# Altium schematic symbol library Stepper_DriverSCH.SCHLIB: 98 symbols
Pins are listed as number, name and electrical type; pins without a type are passive.

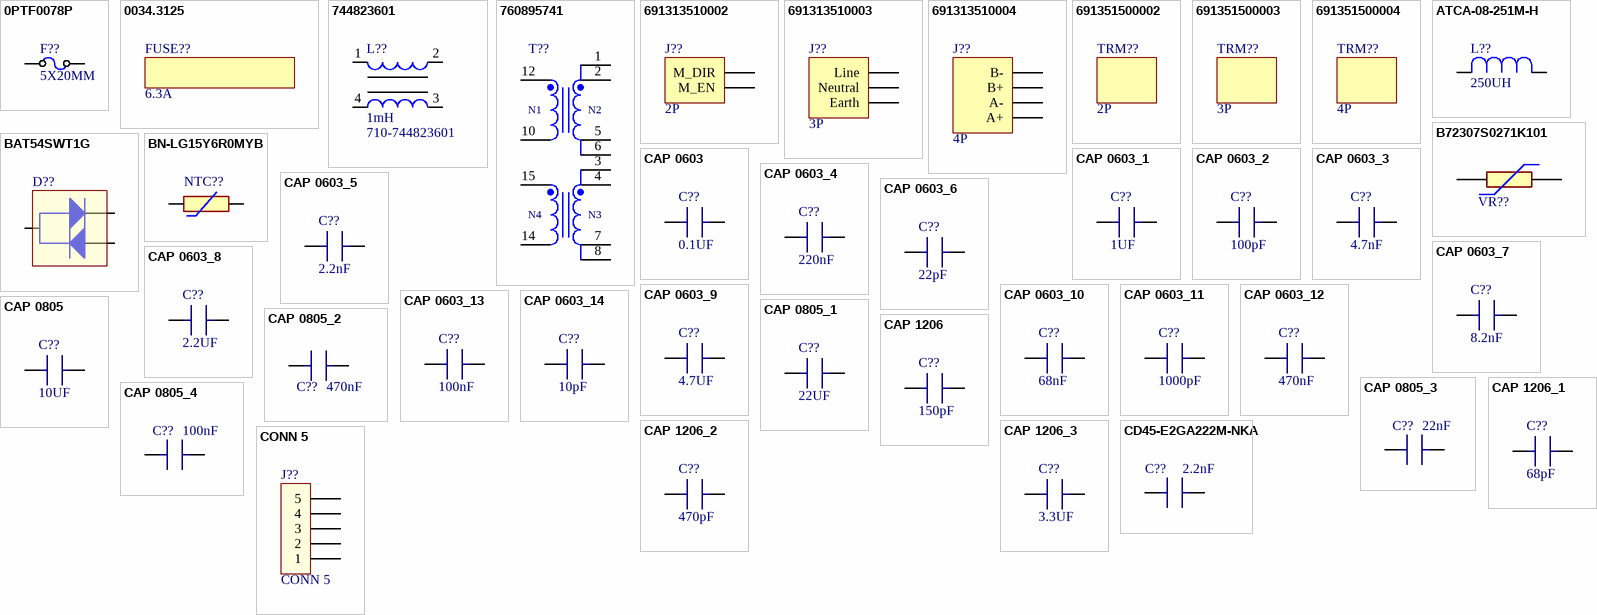
[diagram p0: symbols 0PTF0078P to CONN 5]

## 0PTF0078P
designator F??, comment 5X20MM
Fuse Holder 5X20MM Pitch 22/7 UL94V0 Open; Supplier 1: Mouser; Supplier Part Number 1: 576-0PTF0078P
footprint FUSE HOLDER 5X20MM
pins: 1, 2

## 0034.3125
designator FUSE??, comment 6.3A  (mechanical)
Cartridge Fuses FST 5X20 250V 6.3A; Supplier 1: Mouser; Supplier Part Number 1: 693-0034.3125

## 744823601
designator L??, comment 1mH  Supplier Part Number 1: 710-744823601
Common Mode Chokes / Filters WE-CMB Choke Type M 1mH 6A 13mOhm; Supplier 1: Mouser
footprint 744823601
pins: 1, 2, 3, 4

## 760895741
designator T??, comment 360-400Vin, 24Vout, 250W  (value not drawn)
WE-LLCR Resonant Converter, THT, ETD44, 360-400Vin, 24Vout, 250W; Manufacturer Part Number: 760895741; Manufacturer: Wurth Elektronik; Auxiliary Voltage: 16V; Inductance: 400uH; Leakage Inductance: 65uH; Output Current: 10.4A; Output Voltage: 24V; Saturation Current: 4.3A; Switching Frequency: 70-120kHz; Turns Ratio: 27:3:3:2; Category: Transformers For AC-DC Converter; Match Code: WE-LLCR; ComponentLink1Description: Website Link; ComponentLink1URL: https://www.we-online.com/redexpert/article/760895741?ad; ComponentLink2Description: Datasheet Link; ComponentLink2URL: https://www.we-online.com/redexpert/spec/760895741?ad; Mount: Through Hole; Operating Temperature Max: 125°C; Operating Temperature Min: -40°C; Packaging: Tray; Case/Size Code: ETD44; Length: 48mm; Width: 46mm; Height: 27.5mm; Input Voltage: 360-400V; Output Power: 250W
footprint WE-LLCR_ETD44 (Resonant Converter, body 48x46mm)
simulation model 760895741
pins: 1, 2, 3, 4, 5, 6, 7, 8, 10, 12, 14, 15
text: N1; N2; N4; N3

## 691313510002
designator J??, comment 2P
Pluggable Terminal Blocks WR-TBL 300VAC 20A 2P Right Angle; Supplier 1: Mouser; Supplier Part Number 1: 710-691313510002
footprint 691313510002 (5,08mm - PCB Headers - Horizontal - Closed ends - 02p)
pins: 1 M_EN, 2 M_DIR

## 691313510003
designator J??, comment 3P
Pluggable Terminal Blocks WR-TBL 300VAC 20A 3P Right Angle; Supplier 1: Mouser; Supplier Part Number 1: 710-691313510003
footprint 691313510003 (5,08mm - PCB Headers - Horizontal - Closed ends - 03p)
pins: 1 Earth, 2 Neutral, 3 Line (power)

## 691313510004
designator J??, comment 4P
Pluggable Terminal Blocks WR-TBL 300VAC 20A 4P Right Angle; Supplier 1: Mouser; Supplier Part Number 1: 710-691313510004
footprint 691313510004 (5,08mm - PCB Headers - Horizontal - Closed ends - 04p)
pins: 1 A+, 2 A-, 3 B+ (power), 4 B- (power)

## 691351500002
designator TRM??, comment 2P  (mechanical)
Pluggable Terminal Blocks WR-TBL 300VAC 20A 2P Right Angle; Supplier 1: Mouser; Supplier Part Number 1: 710-691351500002

## 691351500003
designator TRM??, comment 3P  (mechanical)
Pluggable Terminal Blocks WR-TBL 300VAC 20A 3P Right Angle; Supplier 1: Mouser; Supplier Part Number 1: 710-691351500003

## 691351500004
designator TRM??, comment 4P  (mechanical)
Pluggable Terminal Blocks WR-TBL 300VAC 20A 4P Right Angle; Supplier 1: Mouser; Supplier Part Number 1: 710-691351500004

## ATCA-08-251M-H
designator L??, comment 250UH
FIXED IND 250UH 10A 27 MOHM TH; Supplier 1: Mouser; Supplier Part Number 1: 815-ATCA-08-251M-H
footprint IND: ATCA-08-251M-H
pins: 1, 2

## B72307S0271K101
designator VR??, comment 275VAC  (value not drawn)
Varistors 7mm, 275Vac, 10%, Compact Series; Supplier 1: Mouser; Supplier Part Number 1: 871-B72307S0271K101
footprint B72307S0271K101
pins: 1, 2

## BAT54SWT1G
designator D??  (value not drawn)
Schottky Diodes & Rectifiers 30V 200mW Dual; Supplier 1: Mouser; Supplier Part Number 1: 863-BAT54SWT1G
footprint SOT323
pins: 1 A, 2 K, 3 A/K

## BN-LG15Y6R0MYB
designator NTC??  (value not drawn)
NTC (Negative Temperature Coefficient) Thermistors 15 dia Power NTC 6ohm Y kink bulk; Supplier 1: Mouser; Supplier Part Number 1: 652-BN-LG15Y6R0MYB
footprint NTC Radial: 7.5X1MM
pins: 1, 2

## CAP 0603
designator C??, comment 0.1UF
CAP SMD 0603
footprint CAP: 0603
pins: 1 A, 2 B

## CAP 0603_1
designator C??, comment 1UF
CAP SMD 0603
footprint CAP: 0603
pins: 1 A, 2 B

## CAP 0603_2
designator C??, comment 100pF
CAP SMD 0603
footprint CAP: 0603
pins: 1 A, 2 B

## CAP 0603_3
designator C??, comment 4.7nF
CAP SMD 0603
footprint CAP: 0603
pins: 1 A, 2 B

## CAP 0603_4
designator C??, comment 220nF
CAP SMD 0603
footprint CAP: 0603
pins: 1 A, 2 B

## CAP 0603_5
designator C??, comment 2.2nF
CAP SMD 0603
footprint CAP: 0603
pins: 1 A, 2 B

## CAP 0603_6
designator C??, comment 22pF
CAP SMD 0603
footprint CAP: 0603
pins: 1 A, 2 B

## CAP 0603_7
designator C??, comment 8.2nF
CAP SMD 0603
footprint CAP: 0603
pins: 1 A, 2 B

## CAP 0603_8
designator C??, comment 2.2UF
CAP SMD 0603
footprint CAP: 0603
pins: 1 A, 2 B

## CAP 0603_9
designator C??, comment 4.7UF
CAP SMD 0603
footprint CAP: 0603
pins: 1 A, 2 B

## CAP 0603_10
designator C??, comment 68nF
CAP SMD 0603
footprint CAP: 0603
pins: 1 A, 2 B

## CAP 0603_11
designator C??, comment 1000pF
CAP SMD 0603
footprint CAP: 0603
pins: 1 A, 2 B

## CAP 0603_12
designator C??, comment 470nF
CAP SMD 0603
footprint CAP: 0603
pins: 1 A, 2 B

## CAP 0603_13
designator C??, comment 100nF
CAP SMD 0603
footprint CAP: 0603
pins: 1 A, 2 B

## CAP 0603_14
designator C??, comment 10pF
CAP SMD 0603
footprint CAP: 0603
pins: 1 A, 2 B

## CAP 0805
designator C??, comment 10UF
CAP SMD 0805
footprint CAP: 0805
pins: 1 A, 2 B

## CAP 0805_1
designator C??, comment 22UF
CAP SMD 0805
footprint CAP: 0805
pins: 1 A, 2 B

## CAP 0805_2
designator C??, comment 470nF
CAP SMD 0805
footprint CAP: 0805
pins: 1 A, 2 B

## CAP 0805_3
designator C??, comment 22nF
CAP SMD 0805
footprint CAP: 0805
pins: 1 A, 2 B

## CAP 0805_4
designator C??, comment 100nF
CAP SMD 0805
footprint CAP: 0805
pins: 1 A, 2 B

## CAP 1206
designator C??, comment 150pF
CAP SMD 1206
footprint CAP: 1206
pins: 1 A, 2 B

## CAP 1206_1
designator C??, comment 68pF
CAP SMD 1206
footprint CAP: 1206
pins: 1 A, 2 B

## CAP 1206_2
designator C??, comment 470pF
CAP SMD 1206
footprint CAP: 1206
pins: 1 A, 2 B

## CAP 1206_3
designator C??, comment 3.3UF
CAP SMD 1206
footprint CAP: 1206
pins: 1 A, 2 B

## CD45-E2GA222M-NKA
designator C??, comment 2.2nF
Safety Capacitors D: 9mm X1/Y1 2200pF E 20% LS:10mm; Supplier 1: Mouser; Supplier Part Number 1: 810-CD45-E2GA222MNKA
footprint C10MM
pins: 1 A, 2 B

## CONN 5
designator J??
footprint CON: PLS-5
pins: 1, 2, 3 (power), 4 (power), 5 (power)

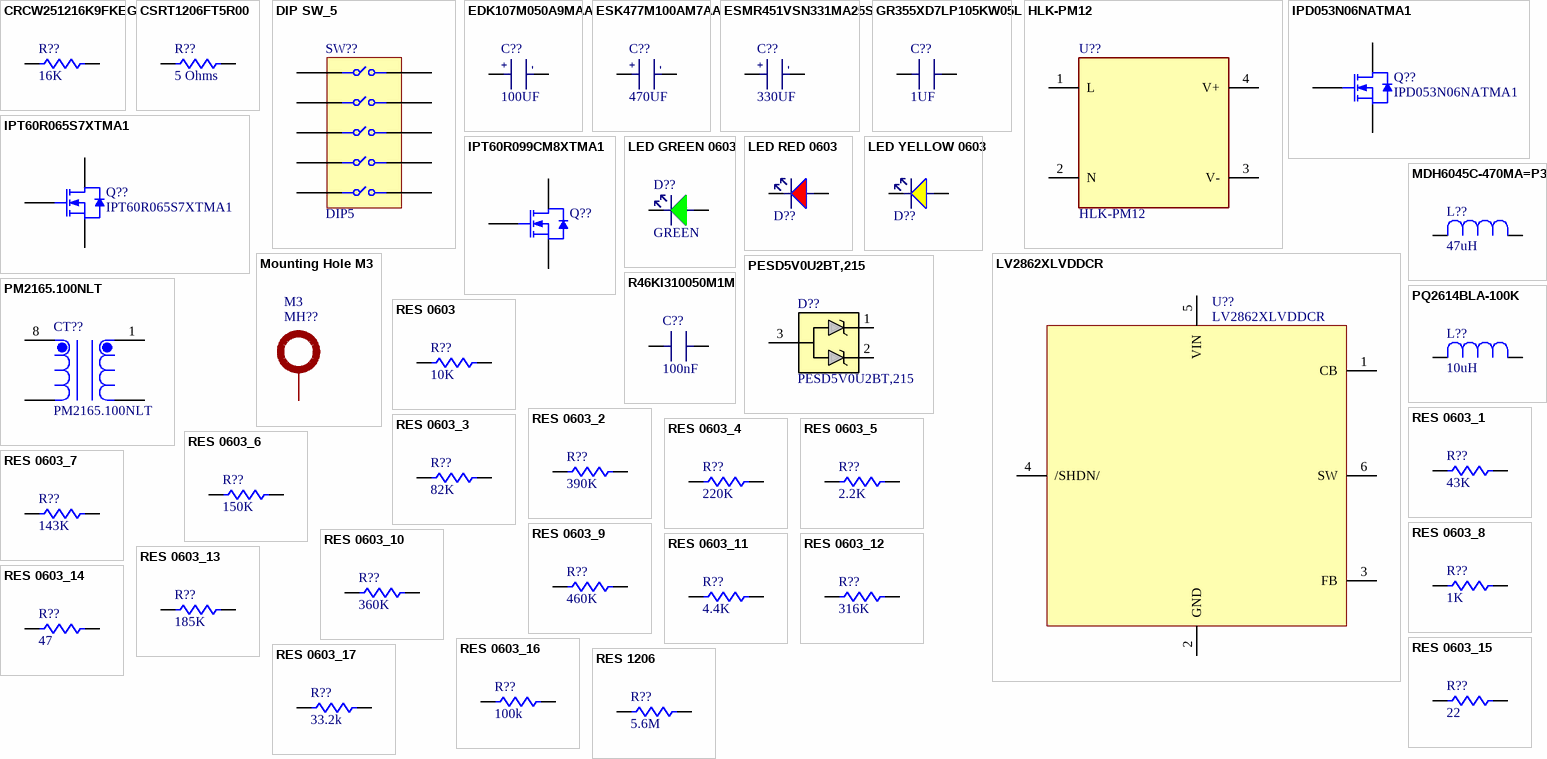
[diagram p1: symbols CRCW251216K9FKEG to RES 1206]

## CRCW251216K9FKEG
designator R??, comment 16K
Thick Film Resistors CRCW2512 100 16K9 1% E67 e3; Supplier 1: Mouser; Supplier Part Number 1: 71-CRCW251216K9FKEG
footprint RES: 2512
pins: 1, 2

## CSRT1206FT5R00
designator R??, comment 5 Ohms
Current Sense Resistors - SMD 5Ohms 1206 1W 1% Thin Curr Sens AEC-Q200; Supplier 1: Mouser; Supplier Part Number 1: 708-CSRT1206FT5R00
footprint RES: 1206
pins: 1, 2

## DIP SW_5
designator SW??, comment DIP5
DIP Switch 5
footprint DIPSW254_5
pins: 1 COM1, 2 COM2, 3 COM3, 4 COM4, 5 COM5, 6 NO 5, 7 NO 4, 8 NO 3, 9 NO 2, 10 NO 1

## EDK107M050A9MAA
designator C??, comment 100UF
Aluminium Electrolytic Capacitors - SMD 50V 100uF 20%; Supplier 1: Mouser; Supplier Part Number 1: 80-EDK107M050A9MAA
footprint CAP SMD 8 (Electrolytic Cap, Size E, Size F, 8.3X10)
pins: 1 + "positive", 2 - "negative"

## ESK477M100AM7AA
designator C??, comment 470UF
Aluminium Electrolytic Capacitors - Radial Leaded 100V 470uF 85C 2k Hour Radial; Supplier 1: Mouser; Supplier Part Number 1: 80-ESK477M100AM7AA
footprint CAP: D16C7.5H25
pins: 1 + "positive", 2 - "negative"

## ESMR451VSN331MA25S
designator C??, comment 330UF
Aluminium Electrolytic Capacitors - Snap In 450V 330uF 20% Tol.; Supplier 1: Mouser; Supplier Part Number 1: 661-ESMR451N331MA25S
footprint CAP: 10MM D: 35MM L: 25MM Snap In
pins: 1 + "positive", 2 - "negative"

## GR355XD7LP105KW05L
designator C??, comment 1UF
Multilayer Ceramic Capacitors MLCC - SMD/SMT 1 uF 450 VDC 10% 2220 X7T; Supplier 1: Mouser; Supplier Part Number 1: 81-GR355X7LP105KW05L
footprint CAP: 2220
pins: 1 A, 2 B

## HLK-PM12
designator U??
AC-DC Module 3W 220Vac to 12Vdc; Supplier 1: LCSC; Supplier Part Number 1: C209905
footprint HLK-PM01
pins: 1 L, 2 N, 3 V-, 4 V+

## IPD053N06NATMA1
designator Q??
MOSFETs N-Ch 60V 45A DPAK-2; Supplier 1: Mouser; Supplier Part Number 1: 726-IPD053N06NATMA1
footprint DPAK_3 (D-PAK (TO-252), 3-Pads, Body 6.2x6.7mm)
pins: 1 G, 3 S, 4 D

## IPT60R065S7XTMA1
designator Q??
MOSFET N-CH 600V 8A 8HSOF; Supplier 1: Mouser; Supplier Part Number 1: 726-IPT60R065S7XTMA1
footprint 8-HSOF
pins: 1 G, 2 D, 3 S

## IPT60R099CM8XTMA1
designator Q??  (value not drawn)
MOSFETs 600V CoolMOS CM8 Power Transistor; Supplier 1: Mouser; Supplier Part Number 1: 726-IPT60R099CM8XTMA
footprint 8-HSOF
pins: 1 G, 2 D, 3 S

## LED GREEN 0603
designator D??, comment GREEN
LED GREEN CLEAR 0603 SMD
footprint LED: 0603G
pins: 1 C "Cathod", 2 A "Anod"

## LED RED 0603
designator D??, comment RED  (value not drawn)
LED RED CLEAR 0603 SMD
footprint LED: 0603R
pins: 1 C "Cathod", 2 A "Anod"

## LED YELLOW 0603
designator D??, comment YELLOW  (value not drawn)
LED YELLOW CLEAR 0603 SMD
footprint LED: 0603Y
pins: 1 C "Cathod", 2 A "Anod"

## LV2862XLVDDCR
designator U??
Switching Voltage Regulators 4.5-V to 60-V 600-m A buck converter in A 595-LV2862XLVDDCT; Supplier 1: Mouser; Supplier Part Number 1: 595-LV2862XLVDDCR
footprint SOT23-6 (pitch 0.95 mm)
pins: 1 CB, 2 GND (power), 3 FB, 4 /SHDN/ (power), 5 VIN, 6 SW

## MDH6045C-470MA=P3
designator L??, comment 47uH
Power Inductors - SMD 47uH 208mOhms 20 % 1A AEC-Q200; Supplier 1: Mouser; Supplier Part Number 1: 81-MDH6045C-470MA=P3
footprint MDH6045C
pins: 1, 2

## Mounting Hole M3
designator MH??, comment M3  (no BOM)
Mounting Hole M3 Screw
footprint M3 Mounting Hole
pins: 1

## PESD5V0U2BT,215
designator D??
ESD Protection Diodes / TVS Diodes ESD 5V BI; Supplier 1: Mouser; Supplier Part Number 1: 771-PESD5V0U2BTT/R
footprint SOT23_3
pins: 1 K1, 2 K2, 3 CC

## PM2165.100NLT
designator CT??
Current Transformers 2mH 1000V AEC-Q200 20A DCR=0.75mOhms; Supplier 1: Mouser; Supplier Part Number 1: 673-PM2165.100NLT
footprint CT: PM2165.100NLT
pins: 1 P, 3 P, 7 S, 8 S

## PQ2614BLA-100K
designator L??, comment 10uH
Power Inductors - SMD 10uH 10% 30A AEC-Q200 GULL WING; Supplier 1: Mouser; Supplier Part Number 1: 652-PQ2614BLA-100K
footprint IND: PQ2614BLA100K
pins: 1, 2

## R46KI310050M1M
designator C??, comment 100nF
Safety Capacitors 275vac 0.1uF 20%; Supplier 1: Mouser; Supplier Part Number 1: 80-R46KI310050M1M
footprint CAP: 15MM Film Capacitor
pins: 1 A, 2 B

## RES 0603
designator R??, comment 10K
RES SMD 0603
footprint RES: 0603
pins: 1, 2

## RES 0603_1
designator R??, comment 43K
RES SMD 0603
footprint RES: 0603
pins: 1, 2

## RES 0603_2
designator R??, comment 390K
RES SMD 0603
footprint RES: 0603
pins: 1, 2

## RES 0603_3
designator R??, comment 82K
RES SMD 0603
footprint RES: 0603
pins: 1, 2

## RES 0603_4
designator R??, comment 220K
RES SMD 0603
footprint RES: 0603
pins: 1, 2

## RES 0603_5
designator R??, comment 2.2K
RES SMD 0603
footprint RES: 0603
pins: 1, 2

## RES 0603_6
designator R??, comment 150K
RES SMD 0603
footprint RES: 0603
pins: 1, 2

## RES 0603_7
designator R??, comment 143K
RES SMD 0603
footprint RES: 0603
pins: 1, 2

## RES 0603_8
designator R??, comment 1K
RES SMD 0603
footprint RES: 0603
pins: 1, 2

## RES 0603_9
designator R??, comment 460K
RES SMD 0603
footprint RES: 0603
pins: 1, 2

## RES 0603_10
designator R??, comment 360K
RES SMD 0603
footprint RES: 0603
pins: 1, 2

## RES 0603_11
designator R??, comment 4.4K
RES SMD 0603
footprint RES: 0603
pins: 1, 2

## RES 0603_12
designator R??, comment 316K
RES SMD 0603
footprint RES: 0603
pins: 1, 2

## RES 0603_13
designator R??, comment 185K
RES SMD 0603
footprint RES: 0603
pins: 1, 2

## RES 0603_14
designator R??, comment 47
RES SMD 0603
footprint RES: 0603
pins: 1, 2

## RES 0603_15
designator R??, comment 22
RES SMD 0603
footprint RES: 0603
pins: 1, 2

## RES 0603_16
designator R??, comment 100k
RES SMD 0603
footprint RES: 0603
pins: 1, 2

## RES 0603_17
designator R??, comment 33.2k
RES SMD 0603
footprint RES: 0603
pins: 1, 2

## RES 1206
designator R??, comment 5.6M
RES SMD 1206
footprint RES: 1206
pins: 1, 2

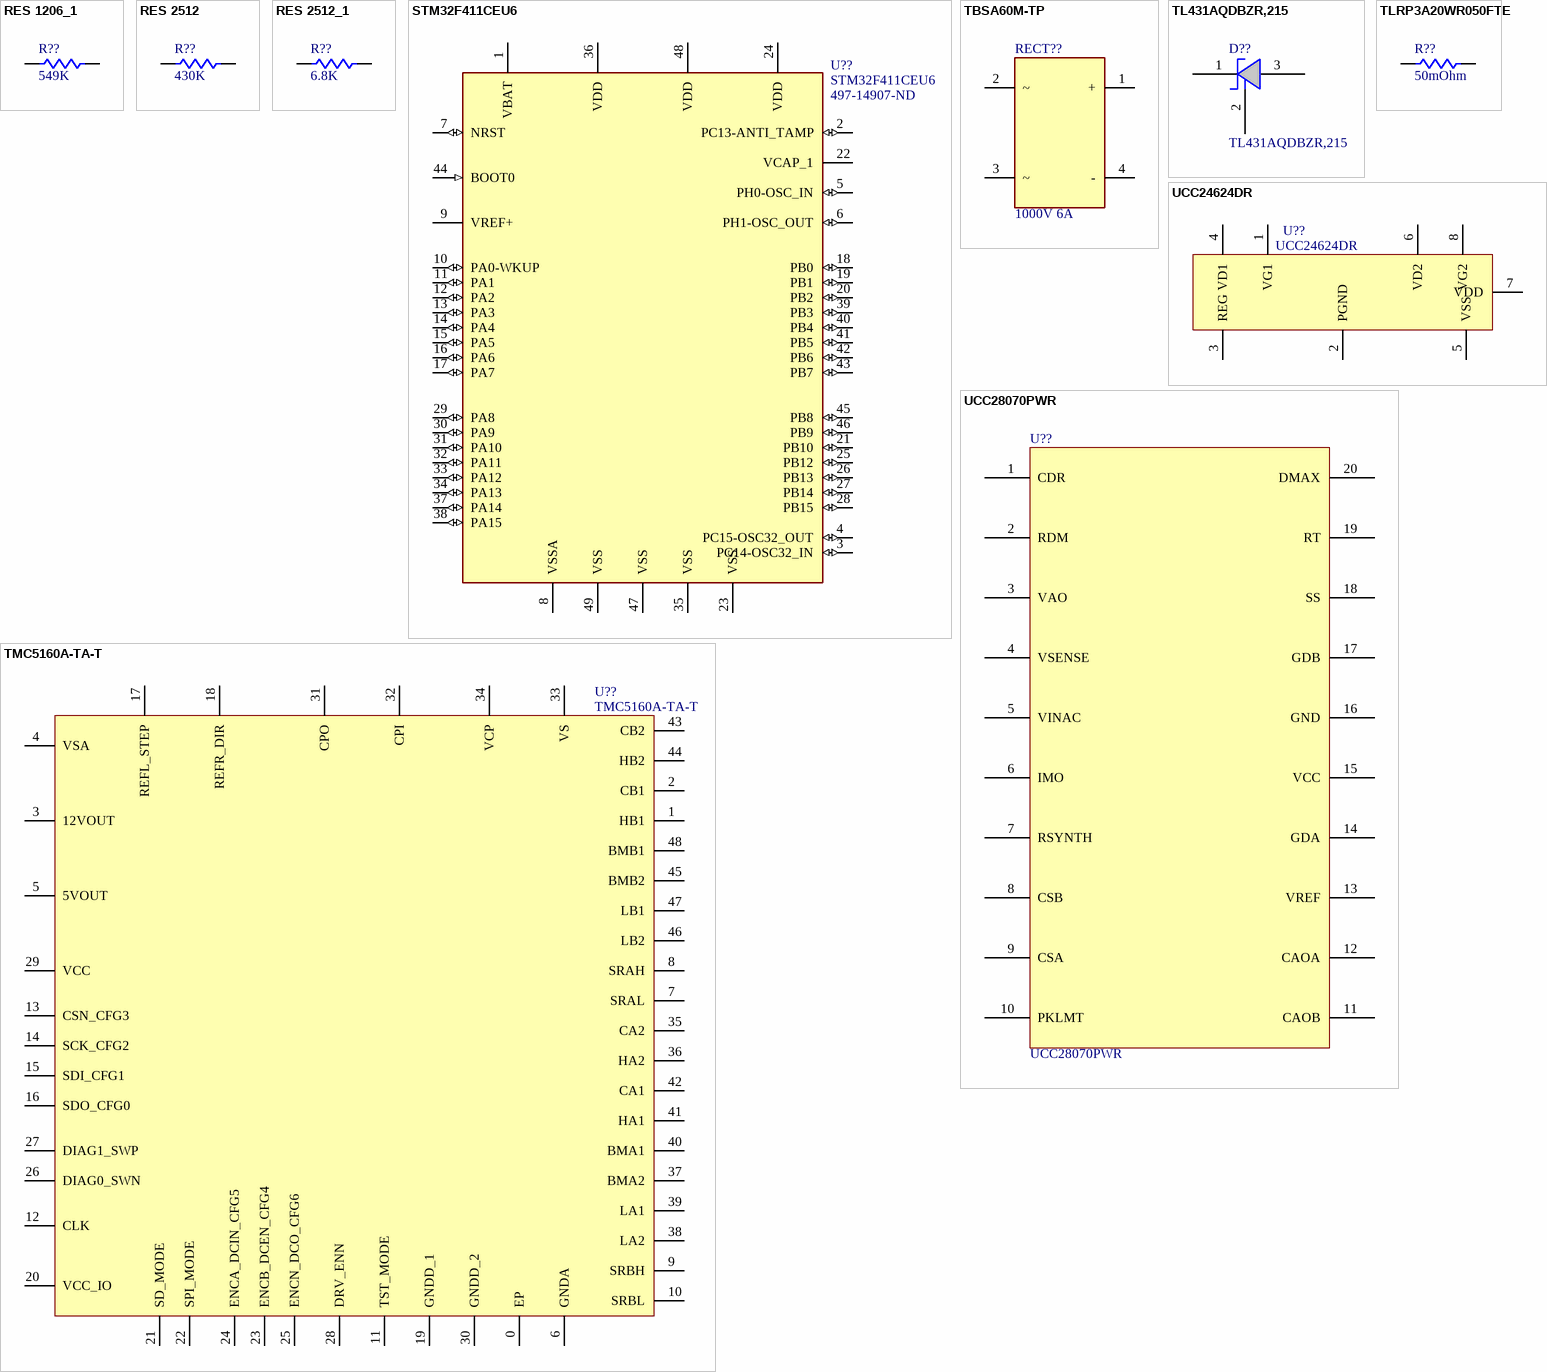
[diagram p2: symbols RES 1206_1 to UCC28070PWR]

## RES 1206_1
designator R??, comment 549K
RES SMD 1206
footprint RES: 1206
pins: 1, 2

## RES 2512
designator R??, comment 430K
RES SMD 2512
footprint RES: 2512
pins: 1, 2

## RES 2512_1
designator R??, comment 6.8K
RES SMD 2512
footprint RES: 2512
pins: 1, 2

## STM32F411CEU6
designator U??  Supplier Part Number 1: 497-14907-ND
IC MCU 32BIT 512KB FLSH 48UFQFPN; Manufacturer: STMicroelectronics; Interface: I2C,SPI,USB,IrDA,MMC,SDIO,SD,UART,USART,LIN,I2S; Number of I/Os: 36; Frequency: 100MHz; Oscillator Type: Internal; Memory Type: FLASH; Peripherals: Brown-out Detect/Reset,POR,PWM,WDT,DMA; Core Architecture: ARM; RAM Size: 128KB; Max Power Dissipation: 625mW; Number of Timers/Counters: 8; Min Supply Voltage: 1.7V; Max Supply Voltage: 3.6V; Data Bus Width: 32b; Watchdog Timer: Yes; Number of ADC Channels: 16; Operating Supply Voltage: 3.3V; Supplier 1: Digi-Key; Manufacturer Part Number: STM32F411CEU6; Mount: Surface Mount; Case/Package: UFQFPN; Number of Pins: 48; Min Operating Temperature: -40°C; Max Operating Temperature: 85°C; Packaging: Tray; Memory Size: 512KB; Number of Programmable I/O: 36; Max Frequency: 100MHz; Package Quantity: 1560; Length: 7mm; Width: 7mm; Radiation Hardening: No; Lead Free: Lead Free; RoHS Compliant: Yes; REACH SVHC: No SVHC
footprint STM32F411CEU6 (QFN, 48-Leads, Body 7.00x7.00mm, Pitch 0.50mm, Thermal Pad 5.80x5.80mm, IPC Medium Density)
pins: 1 VBAT (power), 2 PC13-ANTI_TAMP (io), 3 PC14-OSC32_IN (io), 4 PC15-OSC32_OUT (io), 5 PH0-OSC_IN (io), 6 PH1-OSC_OUT (io), 7 NRST (io), 8 VSSA (power), 9 VREF+ (power), 10 PA0-WKUP (io), 11 PA1 (io), 12 PA2 (io), 13 PA3 (io), 14 PA4 (io), 15 PA5 (io), 16 PA6 (io), 17 PA7 (io), 18 PB0 (io), 19 PB1 (io), 20 PB2 (io), 21 PB10 (io), 22 VCAP_1 (power), 23 VSS (power), 24 VDD (power), 25 PB12 (io), 26 PB13 (io), 27 PB14 (io), 28 PB15 (io), 29 PA8 (io), 30 PA9 (io), 31 PA10 (io), 32 PA11 (io), 33 PA12 (io), 34 PA13 (io), 35 VSS (power), 36 VDD (power), 37 PA14 (io), 38 PA15 (io), 39 PB3 (io), 40 PB4 (io), 41 PB5 (io), 42 PB6 (io), 43 PB7 (io), 44 BOOT0 (in), 45 PB8 (io), 46 PB9 (io), 47 VSS (power), 48 VDD (power), 49 VSS (power)

## TBSA60M-TP
designator RECT??, comment 1000V 6A
Bridge Rectifiers BRIDGE RECTIFIERS 1000V 6A, TBSG; Supplier 1: Mouser; Supplier Part Number 1: 833-TBSA60M-TP
footprint TBSG-4
pins: 1 +, 2 ~, 3 ~, 4 -

## TL431AQDBZR,215
designator D??
Shunt Voltage Reference IC Adjustable 2.495V 36 VV ±1% 100 mA TO-236AB; Supplier 1: Mouser; Supplier Part Number 1: 771-TL431AQDBZR215
footprint SOT23(TO-236AB)_NEX
pins: 1, 2, 3

## TLRP3A20WR050FTE
designator R??, comment 50mOhm
Current Sense Resistors - SMD TLRP 2512 2.0W R050 1% 75PPM 4K RL; Supplier 1: Mouser; Supplier Part Number 1: 279-TLRP3A20WR050FTE
footprint RES: 2512
pins: 1, 2

## TMC5160A-TA-T
designator U??
Motor/Motion/Ignition Controllers & Drivers Stepper motor cDriver 8 to 60V, for external N-Fets with S/D and SPI Interface, 256 Steps, SixPoint ramp controller, CoolStep, StallGuard2, SpreadCycle and StealthChop2; Supplier 1: Mouser; Supplier Part Number 1: 700-TMC5160A-TA-T
footprint 48-TQFP (pitch 0.5 mm, power pad)
pins: 0 EP, 1 HB1, 2 CB1, 3 12VOUT, 4 VSA, 5 5VOUT, 6 GNDA, 7 SRAL, 8 SRAH, 9 SRBH, 10 SRBL, 11 TST_MODE, 12 CLK, 13 CSN_CFG3, 14 SCK_CFG2, 15 SDI_CFG1, 16 SDO_CFG0, 17 REFL_STEP, 18 REFR_DIR, 19 GNDD_1, 20 VCC_IO, 21 SD_MODE, 22 SPI_MODE, 23 ENCB_DCEN_CFG4, 24 ENCA_DCIN_CFG5, 25 ENCN_DCO_CFG6, 26 DIAG0_SWN, 27 DIAG1_SWP, 28 DRV_ENN, 29 VCC, 30 GNDD_2, 31 CPO, 32 CPI, 33 VS, 34 VCP, 35 CA2, 36 HA2, 37 BMA2, 38 LA2, 39 LA1, 40 BMA1, 41 HA1, 42 CA1, 43 CB2, 44 HB2, 45 BMB2, 46 LB2, 47 LB1, 48 BMB1

## UCC24624DR
designator U??
Gate Drivers High-frequency dual synchronous rectifi A 595-UCC24624DT; Supplier 1: Mouser; Supplier Part Number 1: 595-UCC24624DR
footprint 8-SOIC
pins: 1 VG1, 2 PGND, 3 REG, 4 VD1, 5 VSS, 6 VD2, 7 VDD, 8 VG2

## UCC28070PWR
designator U??
Power Factor Correction - PFC 2Phase Interleaved C CM PFC Controller A 595-UCC28070PW; Supplier 1: Mouser; Supplier Part Number 1: 595-UCC28070PWR
footprint 20-TSSOP (pitch 0.65 mm)
pins: 1 CDR, 2 RDM, 3 VAO, 4 VSENSE, 5 VINAC, 6 IMO, 7 RSYNTH, 8 CSB, 9 CSA, 10 PKLMT, 11 CAOB, 12 CAOA, 13 VREF, 14 GDA, 15 VCC, 16 GND, 17 GDB, 18 SS, 19 RT, 20 DMAX

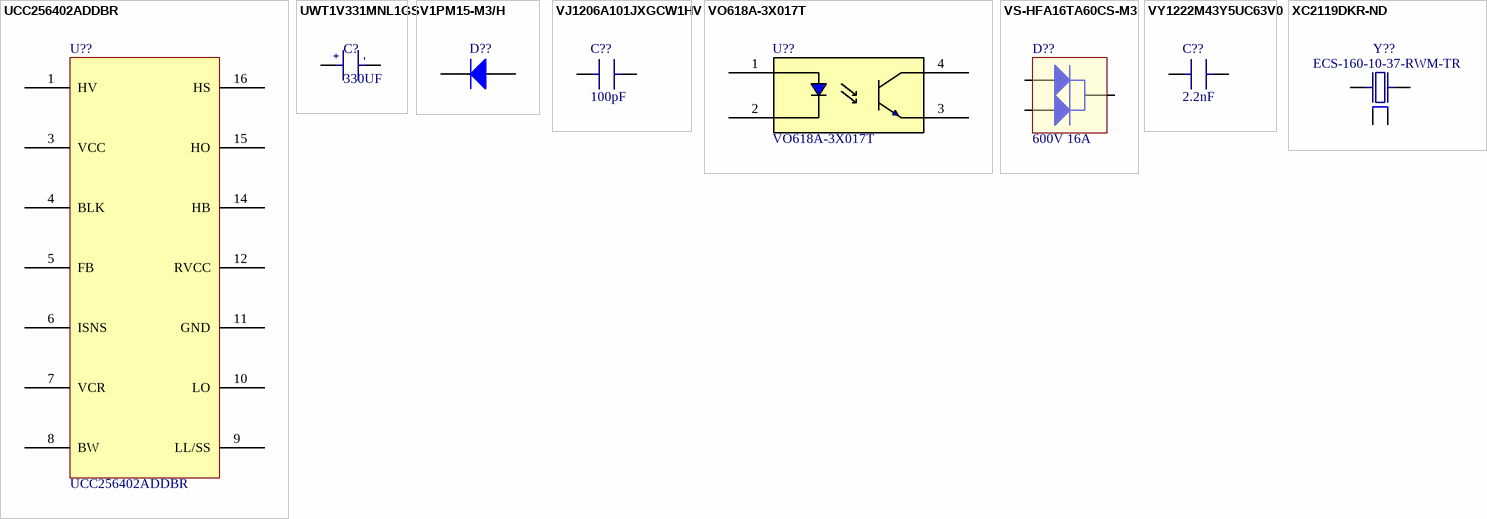
[diagram p3: symbols UCC256402ADDBR to XC2119DKR-ND]

## UCC256402ADDBR
designator U??
Switching Controllers LLC resonant control ler with ultra-low s A 595-UCC256402ADDBT; Supplier 1: Mouser; Supplier Part Number 1: 595-UCC256402ADDBR
footprint 14-SOIC (DDB)
pins: 1 HV, 3 VCC, 4 BLK, 5 FB, 6 ISNS, 7 VCR, 8 BW, 9 LL/SS, 10 LO, 11 GND, 12 RVCC, 14 HB, 15 HO, 16 HS

## UWT1V331MNL1GS
designator C?, comment 330UF
Aluminium Electrolytic Capacitors - SMD 35volts 330uF AEC-Q200; Supplier 1: Mouser; Supplier Part Number 1: 647-UWT1V331MNL1S
footprint CAPAE1030X1080N (Footprint not found)
pins: 1 + "positive", 2 - "negative"

## V1PM15-M3/H
designator D??  (value not drawn)
Schottky Diodes & Rectifiers 150V 1A TMBS MicroSMP; Supplier 1: Mouser; Supplier Part Number 1: 78-V1PM15-M3/H
footprint DO-219AD-2
pins: 1 K, 2 A

## VJ1206A101JXGCW1HV
designator C??, comment 100pF
Multilayer Ceramic Capacitors MLCC - SMD/SMT 1206 100pF 5 % 1000V NP0; Supplier 1: Mouser; Supplier Part Number 1: 77-VJ1206A101JXGAT5Z
footprint CAP: 1206
pins: 1 A, 2 B

## VO618A-3X017T
designator U??
Transistor Output Optocouplers Phototransistor Out CTR 100-200%; Supplier 1: Mouser; Supplier Part Number 1: 78-VO618A-3X017T
footprint 4-SMD_2 (Pitch 2.54mm)
pins: 1 A, 2 C, 3 E, 4 C

## VS-HFA16TA60CS-M3
designator D??, comment 600V 16A
Schottky Diodes & Rectifiers 600V 16A TO-263 HexFred; Supplier 1: Mouser; Supplier Part Number 1: 78-VS-HFA16TA60CS-M3
footprint D2PAK
pins: 1 A, 2 K, 3 A

## VY1222M43Y5UC63V0
designator C??, comment 2.2nF
Safety Capacitors 2200pF X760 Y500VAC 20% Y5U; Supplier 1: Mouser; Supplier Part Number 1: 72-VY1222M43Y5UC63V0
footprint CAP: 10MM Ceramic Disc
pins: 1 A, 2 B

## XC2119DKR-ND
designator Y??, comment ECS-160-10-37-RWM-TR
CRYSTAL 16.0000MHZ 10PF SMD; Supplier 1: Mouser; Supplier Part Number 1: 520-160-10-37-RWM-T
footprint OSC: 2016
pins: 1 XTAL1, 2 GND, 3 XTAL2, 4 GND